# Altium schematic symbol library Analog Device.SchLib: 1 symbol
Pins are listed as number, name and electrical type; pins without a type are passive.

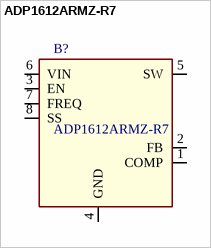
[diagram p0: symbol ADP1612ARMZ-R7]

## ADP1612ARMZ-R7
designator B?
Step Up DC-DC Converter, 1.9A, Adjustable, 5.5  20 V, 8-Pin MSOP; Manufacturer_Name: Analog Devices; Mouser Part Number: 584-ADP1612ARMZ-R7; Manufacturer_Part_Number: ADP1612ARMZ-R7; Datasheet Link: https://componentsearchengine.com/Datasheets/1/ADP1612ARMZ-R7.pdf
footprint SOP65P490X110-8N
pins: 1 COMP, 2 FB, 3 EN, 4 GND, 5 SW, 6 VIN, 7 FREQ, 8 SS